# EAGLE library part ESP-D1 (library Co.-ESP)
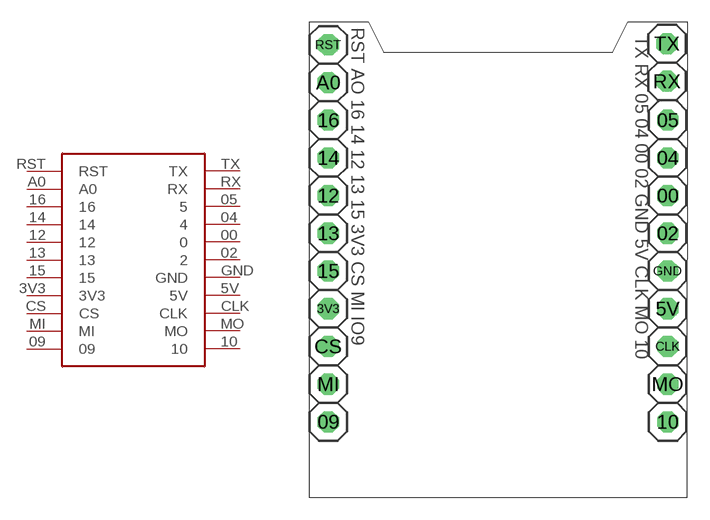
[diagram p24: symbol with the pads of ESP-D1; footprint ESP-D1]

Designator prefix -

## ESP-D1  [ESP-D1]
00  0
02  2
3V3  3V3
04  4
05  5
5V  5V
09  09
10  10
12  12
13  13
14  14
15  15
16  16
A0  A0
CLK  CLK
CS  CS
GND  GND
MI  MI
MO  MO
RST  RST
RX  RX
TX  TX

## Footprint ESP-D1 (pad centres in mm)
drill 0.8 pad 1.422 octagon: 00 24.25,20.42; 02 24.25,17.88; 3V3 1.39,12.8; 04 24.25,22.96; 05 24.25,25.5; 5V 24.25,12.8; 09 1.39,5.18; 10 24.25,5.18; 12 1.39,20.42; 13 1.39,17.88; 14 1.39,22.96; 15 1.39,15.34; 16 1.39,25.5; A0 1.39,28.04; CLK 24.25,10.26; CS 1.39,10.26; GND 24.25,15.34; MI 1.39,7.72; MO 24.25,7.72; RST 1.39,30.58; RX 24.21,28.12; TX 24.21,30.66